# Altium integrated library PZ-CH9121.IntLib: 8 symbols
Pins are listed as number, name and electrical type; pins without a type are passive.

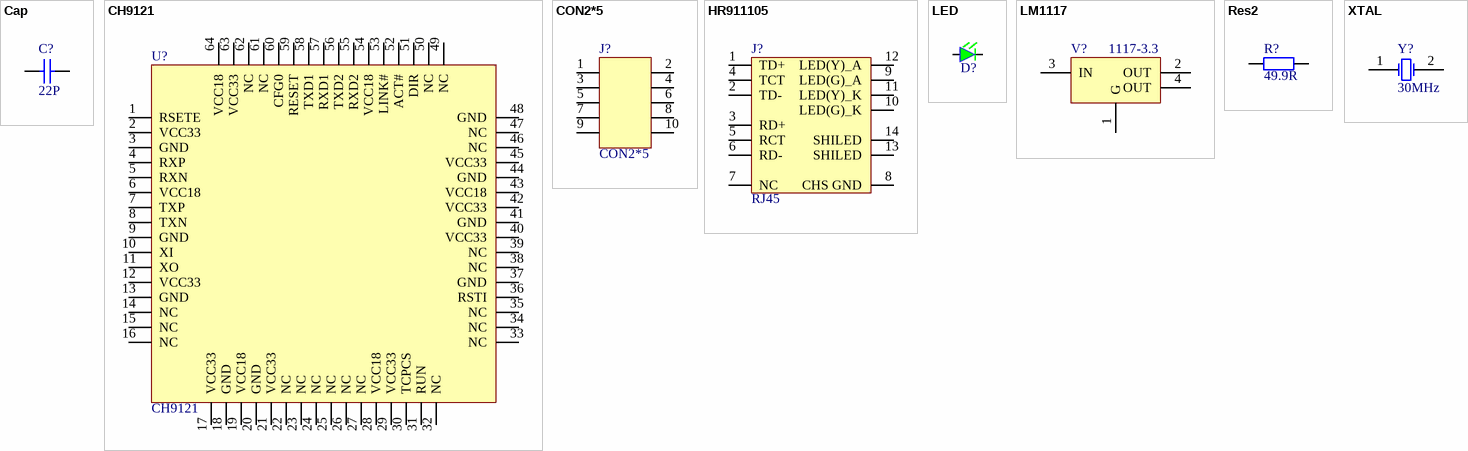
[diagram p0: symbols Cap to XTAL]

## Cap
designator C?, comment 22P
Capacitor
simulation model CAP (Capacitor)
signal-integrity model Cap
footprint 0603
pins: 1, 2

## CH9121
designator U?
footprint LQFP64 (TSQFP, 64-Leads, Body 10.00x10.00mm, Pitch 0.50mm, IPC Medium Density)
pins: 1 RSETE, 2 VCC33, 3 GND, 4 RXP, 5 RXN, 6 VCC18, 7 TXP, 8 TXN, 9 GND, 10 XI, 11 XO, 12 VCC33, 13 GND, 14 NC, 15 NC, 16 NC, 17 VCC33, 18 GND, 19 VCC18, 20 GND, 21 VCC33, 22 NC, 23 NC, 24 NC, 25 NC, 26 NC, 27 NC, 28 VCC18, 29 VCC33, 30 TCPCS, 31 RUN, 32 NC, 33 NC, 34 NC, 35 NC, 36 RSTI, 37 GND, 38 NC, 39 NC, 40 VCC33, 41 GND, 42 VCC33, 43 VCC18, 44 GND, 45 VCC33, 46 NC, 47 NC, 48 GND, 49 NC, 50 NC, 51 DIR, 52 ACT#, 53 LINK#, 54 VCC18, 55 RXD2, 56 TXD2, 57 RXD1, 58 TXD1, 59 RESET, 60 CFG0, 61 NC, 62 NC, 63 VCC33, 64 VCC18

## CON2*5
designator J?
footprint CON2*5
pins: 1, 2, 3, 4, 5, 6, 7, 8, 9, 10

## HR911105
designator J?, comment RJ45
footprint HR911105A (NET_WORK)
pins: 1 TD+, 2 TD-, 3 RD+, 4 TCT, 5 RCT, 6 RD-, 7 NC, 8 CHS GND, 9 LED(G)_A, 10 LED(G)_K, 11 LED(Y)_K, 12 LED(Y)_A, 13 SHILED, 14 SHILED

## LED
designator D?, comment LED红  (value not drawn)
footprint LED0603
footprint LED0603
pins: A a, K k

## LM1117
designator V?, comment 1117-3.3
LINER REG
footprint SOT261
footprint AMS1117
footprint SOT261
pins: 1 G, 2 OUT, 3 IN, 4 OUT
2 alternate drawings of the same symbol

## Res2
designator R?, comment 49.9R
Resistor
simulation model RESISTOR (Resistor)
signal-integrity model Res
footprint 0603
pins: 1, 2

## XTAL
designator Y?, comment 30MHz
Crystal Oscillator; Published: 8-Jun-2000; LatestRevisionDate: 17-Jul-2002; LatestRevisionNote: Re-released for DXP Platform.; Publisher: Altium Limited
footprint XTAL_US
simulation model XTAL (Spice Subcircuit)
pins: 1 OSC1, 2 OSC2